# EAGLE library part RJ11 (library netnode)
ICD connector Farnell: 1097917
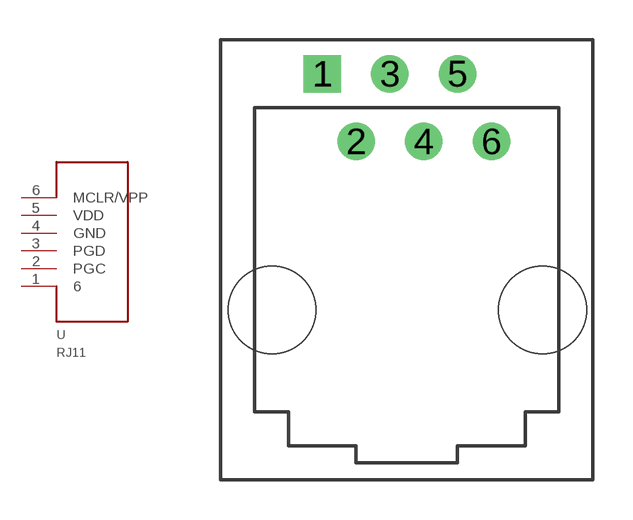
[diagram p6: symbol with the pads of RJ11; footprint RJ11]

Designator prefix -

## RJ11  [RJ11]
1  6
2  PGC
3  PGD
4  GND
5  VDD
6  MCLR/VPP

## Footprint RJ11 (pad centres in mm)
drill 0.9 square: 1 0,11.43
drill 0.9: 2 1.27,8.89; 3 2.54,11.43; 4 3.81,8.89; 5 5.08,11.43; 6 6.35,8.89
hole 3.3 at 8.27,2.56
hole 3.3 at -1.89,2.56